# EAGLE library part SOCKET14_I2C (library Socket14_I2C)
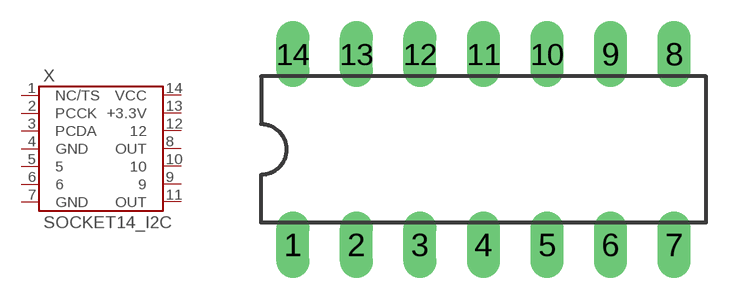
[diagram p0: symbol with the pads of DIL14; footprint DIL14]

Designator prefix X

## SOCKET14_I2C  [DIL14]
1  NC/TS  pas
2  PCCK  pas
3  PCDA  pas
4  GND  pas
5  5  pas
6  6  pas
7  GND  pas
8  OUT  pas
9  9  pas
10  10  pas
11  OUT  pas
12  12  pas
13  +3.3V  pas
14  VCC  pas

## Footprint DIL14 (pad centres in mm)
Dual In Line Package
drill 0.813 long: 1 -7.62,-3.81; 2 -5.08,-3.81; 3 -2.54,-3.81; 4 0,-3.81; 5 2.54,-3.81; 6 5.08,-3.81; 7 7.62,-3.81; 8 7.62,3.81; 9 5.08,3.81; 10 2.54,3.81; 11 0,3.81; 12 -2.54,3.81; 13 -5.08,3.81; 14 -7.62,3.81